# Altium integrated library BSN20BKR.IntLib: 1 symbol
Pins are listed as number, name and electrical type; pins without a type are passive.

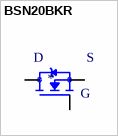
[diagram p0: symbol BSN20BKR]

## BSN20BKR
designator ?
N-Channel 60V 265mA (Ta) 310mW (Ta) Surface Mount TO-236AB; MF: Nexperia USA; MP: BSN20BKR; Package: SOT-23 Nexperia; Value: *; Price: None; SnapEDA_Link: https://www.snapeda.com/parts/BSN20BKR/Nexperia%20USA%20Inc./view-part/1041186/?ref=snap; Availability: Unavailable
footprint BSN20_215
pins: 1 G, 2 S, 3 D